# Altium schematic symbol library RDM_ALT_SCH.SchLib: 270 symbols (part 3 of 4)
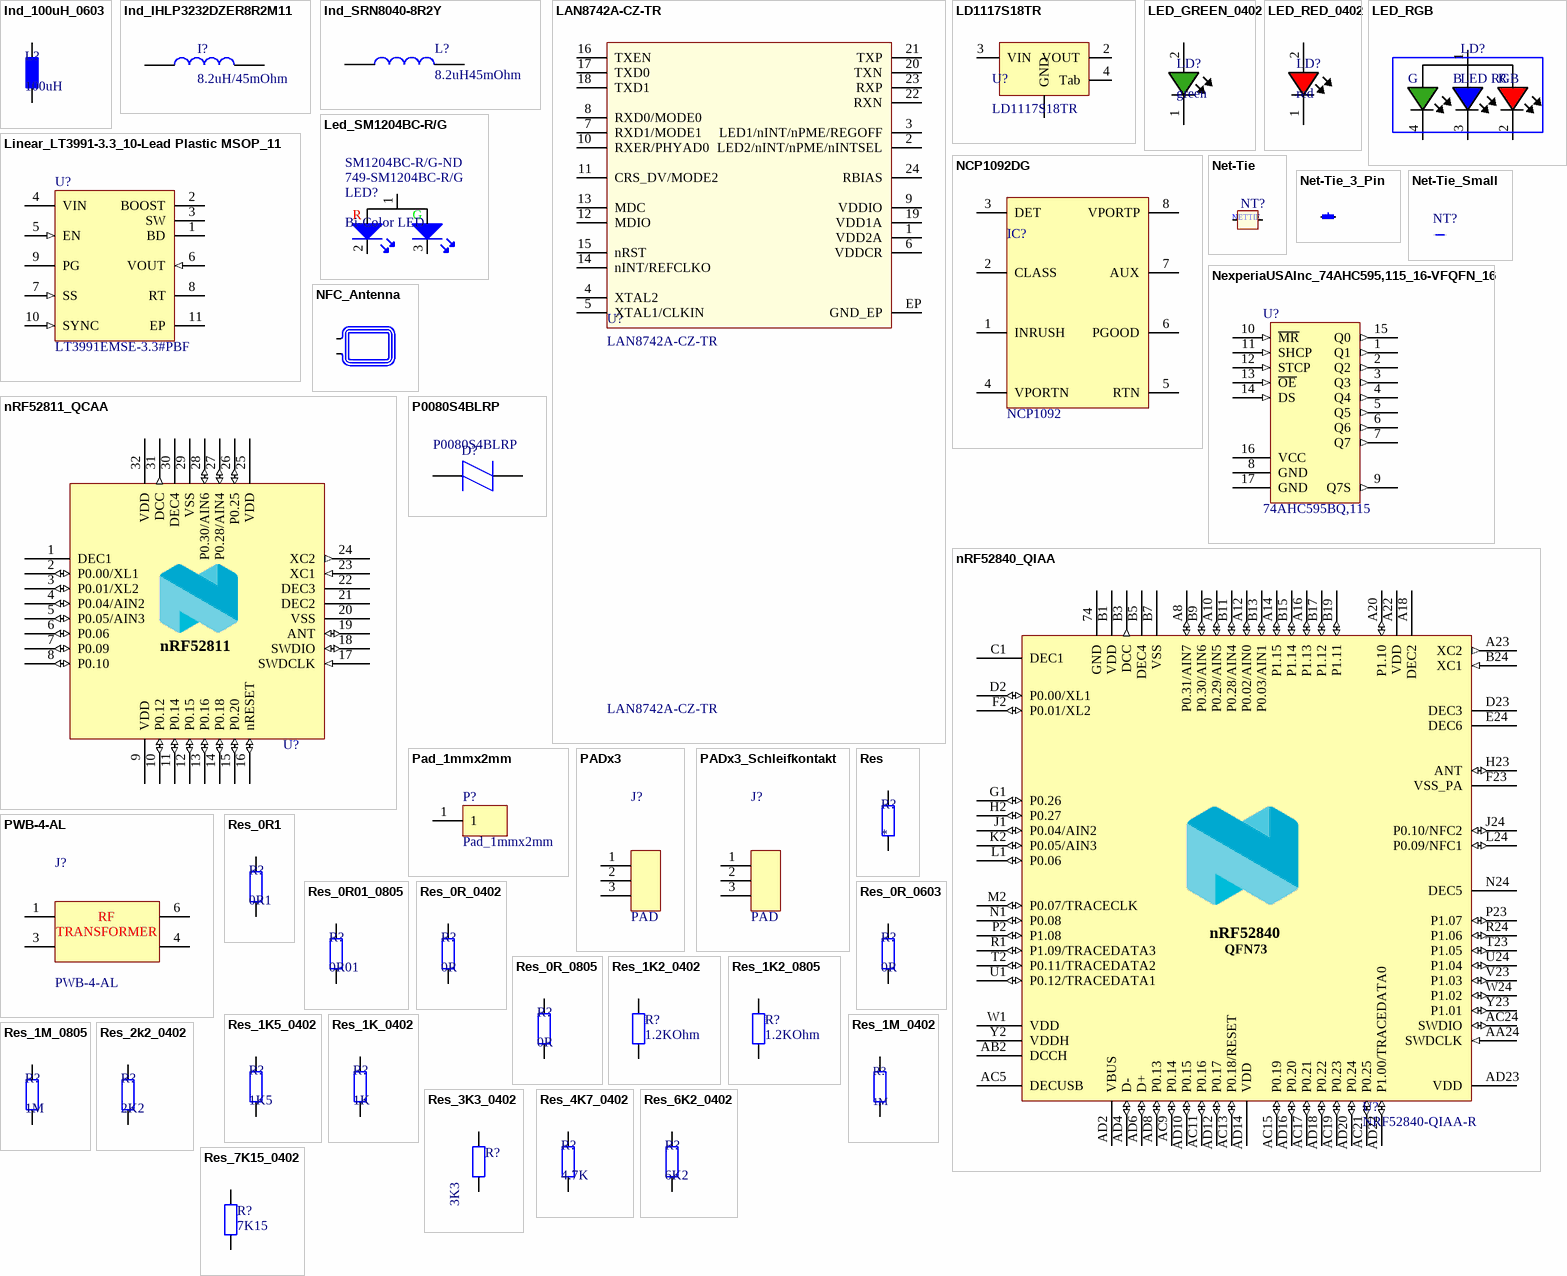
[diagram p11: symbols Ind_100uH_0603 to Res_7K15_0402]

## nRF52811_QCAA
designator U?  (value not drawn)
Multi-protocol Bluetooth Low Energy, IEEE 802.15.4, ANT and 2.4GHz proprietary system-on-chip; Manufacturer: Nordic Semiconductor; Manufacturer PartNr: nRF52811-QCAA-R; Value: nRF52811-QCAA; Replaceable: no; LatestRevisionDate: 2019-01-30; Pin Count: 32; Supplier 1: Mouser; Footprint/Package: QFN-32; Supplier Part Number 1: 949-NRF52811-QCAA-R
footprint nRF52811qcaa (Nordic QFN 32)
pins: 1 DEC1 (power), 2 P0.00/XL1 (io), 3 P0.01/XL2 (io), 4 P0.04/AIN2 (io), 5 P0.05/AIN3 (io), 6 P0.06 (io), 7 P0.09 (io), 8 P0.10 (io), 9 VDD (power), 10 P0.12 (io), 11 P0.14 (io), 12 P0.15 (io), 13 P0.16 (io), 14 P0.18 (io), 15 P0.20 (io), 16 nRESET (io), 17 SWDCLK (in), 18 SWDIO (io), 19 ANT (io), 20 VSS (power), 21 DEC2 (power), 22 DEC3 (power), 23 XC1 (in), 24 XC2 (out), 25 VDD (power), 26 P0.25 (io), 27 P0.28/AIN4 (io), 28 P0.30/AIN6 (io), 29 VSS (power), 30 DEC4 (power), 31 DCC (out), 32 VDD (power), 33 (power) hidden to GND
text: nRF52811

## nRF52840_QIAA
designator U?, comment NRF52840-QIAA-R
Multi-protocol Bluetooth Low Energy, IEEE 802.15.4, ANT and 2.4GHz proprietary system-on-chip; Manufacturer: Nordic Semiconductor; Replaceable: no; voltage: 1.7V ~ 5.5V; Manufacturer PartNr: NRF52840-QIAA-R; power: -; Dielectric Grade: -; value: NRF52840-QIAA-R; Supplier 1: Digi-Key; Footprint/Package: 73-AQFN (7x7mm); Supplier  Part Number 1: 1490-1071-1-ND; tolerance: -
footprint AQFN50P700X700X85_HS-74N
pins: 74 GND (power) hidden to GND, 74 GND, A8 P0.31/AIN7 (io), A10 P0.29/AIN5 (io), A12 P0.02/AIN0 (io), A14 P1.15 (io), A16 P1.13 (io), A18 DEC2 (power), A20 P1.10 (io), A22 VDD (power), A23 XC2 (out), AA24 SWDCLK (in), AB2 DCCH (power), AC5 DECUSB (power), AC9 P0.14 (io), AC11 P0.16 (io), AC13 P0.18/RESET (io), AC15 P0.19 (io), AC17 P0.21 (io), AC19 P0.23 (io), AC21 P0.25 (io), AC24 SWDIO (io), AD2 VBUS (power), AD4 D- (io), AD6 D+ (io), AD8 P0.13 (io), AD10 P0.15 (io), AD12 P0.17 (io), AD14 VDD (power), AD16 P0.20 (io), AD18 P0.22 (io), AD20 P0.24 (io), AD22 P1.00/TRACEDATA0 (io), AD23 VDD (power), B1 VDD (power), B3 DCC (out), B5 DEC4 (power), B7 VSS (power), B9 P0.30/AIN6 (io), B11 P0.28/AIN4 (io), B13 P0.03/AIN1 (io), B15 P1.14 (io), B17 P1.12 (io), B19 P1.11 (io), B24 XC1 (in), C1 DEC1 (power), D2 P0.00/XL1 (io), D23 DEC3 (power), E24 DEC6 (power), F2 P0.01/XL2 (io), F23 VSS_PA (power), G1 P0.26 (io), H2 P0.27 (io), H23 ANT (io), J1 P0.04/AIN2 (io), J24 P0.10/NFC2 (io), K2 P0.05/AIN3 (io), L1 P0.06 (io), L24 P0.09/NFC1 (io), M2 P0.07/TRACECLK (io), N1 P0.08 (io), N24 DEC5 (power), P2 P1.08 (io), P23 P1.07 (io), R1 P1.09/TRACEDATA3 (io), R24 P1.06 (io), T2 P0.11/TRACEDATA2 (io), T23 P1.05 (io), U1 P0.12/TRACEDATA1 (io), U24 P1.04 (io), V23 P1.03 (io), W1 VDD (power), W24 P1.02 (io), Y2 VDDH (power), Y23 P1.01 (io)
text: nRF52840; QFN73

## P0080S4BLRP
designator D?
Thyristor Surge Protection Devices (TSPD) PxxxxS4xLRP Series SIDACtor Protection Thyristor 100A 25V Bi SOD; Manufacturer: Littelfuse; Replaceable: no; ComponentLink1Description: mouser; ComponentLink1URL: https://www.mouser.ch/ProductDetail/Diodes-Incorporated/DESD3V3S1BL-7B?qs=%2fha2pyFaduhA707awRoRgtNXj1BWecNQPXz8CtVYm9O48rqwfwJI0g%3d%3d; Footprint/Package: SOD-123FL; Supplier 1: Mouser; Supplier Part Number 1: 576-P0080S4BLRP; Supplier 2: Digikey; Supplier Part Number 2: P0080S4BLRPCT-ND; Manufacturer PartNr: P0080S4BLRP
footprint P0080S4BLRP (SOD-123FL_Package)
pins: 1 A, 2 K

## Pad_1mmx2mm
designator P?
Manufacturer: Pad_1mmx2mm; Manufacturer PartNr: Pad_1mmx2mm
footprint Pad_1mmx2mm (Footprint not found)
pins: 1

## PADx3
designator J?, comment PAD  (net tie)
-; Replaceable: no; Footprint/Package: 2.54mm
footprint PADx3 (3 PADS)
pins: 1, 2, 3

## PADx3_Schleifkontakt
designator J?, comment PAD  (net tie)
-; Replaceable: no; Footprint/Package: 2.54mm
footprint PADx3_Schleifkontakt (3 PADS)
pins: 1, 2, 3

## PWB-4-AL
designator J?  (net tie)
Audio Transformers / Signal Transformers PWB Wideband RF 1:4 0.150-500 MHz; Manufacturer: Coilcraft; Manufacturer PartNr: PWB-4-ALB; Replaceable: no; Footprint/Package: according datasheet; Supplier 1: Farnell; Supplier 2: Mouser; Supplier Part Number 1: 2458061RL; Supplier Part Number 2: 994-PWB-4-ALB; ComponentLink1Description: mouser; ComponentLink1URL: https://www.mouser.ch/ProductDetail/Coilcraft/PWB-4-ALB?qs=sGAEpiMZZMv0IfuNuy2LUfGhYNbYTVsTGXcIGr0r728%3d
footprint PWB-4-AL (Surface Mount Wideband RF Transformer)
pins: 1, 3, 4, 6
text: RF; TRANSFORMER

## Res
designator R?
Resistor; value: *; tolerance: *; power: *; Replaceable: *; Manufacturer: *; Manufacturer PartNr: *; Footprint/Package: *
footprint Resistor 1206 EIA
footprint Resistor 0805 EIA
footprint Resistor 0603 EIA
footprint Resistor 0402 EIA
pins: 1, 2

## Res_0R1
designator R?, comment 0R1
100 mOhms ±1% 5W Chip Resistor 4527 J-Lead Anti-Sulfur, Automotive AEC-Q200, Current Sense, Moisture Resistant; Manufacturer: Vishay / Dale; Manufacturer PartNr: WSR5R1000FEA; Replaceable: no; value: 0R1; tolerance: ±1%; power: 5W; Footprint/Package: 4527 (11570 metric); Supplier 1: Digi-Key; Supplier Part Number 1: WSRC-.1CT-ND
footprint Resistor 4527 (Current Meas Shunt Resistor)
pins: 1, 2

## Res_0R01_0805
designator R?, comment 0R01
10 mOhms ±1% 0.5W, 1/2W Chip Resistor 0805 (2012 Metric) Current Sense, Moisture Resistant Metal Foil; Manufacturer: Bourns Inc.; Manufacturer PartNr: CFN0805-FX-R010ELF; Replaceable: no; value: 0R01; tolerance: ±1%; power: 0.5W, 1/2W; Footprint/Package: 0805 (2012 metric); Supplier 1: Digi-Key; Supplier Part Number 1: CFN0805-FX-R010ELFCT-ND
footprint Resistor 0805 EIA
pins: 1, 2

## Res_0R_0402
designator R?, comment 0R
0 Ohms Resistor 0402; Manufacturer: Panasonic Electronic Components; Manufacturer PartNr: ERJ-2GE0R00X; power: 100mW; Replaceable: yes; value: 0R; tolerance: -; Footprint/Package: 0402 (1005 metric); Supplier 1: Digi-Key; Supplier Part Number 1: P0.0JCT-ND
footprint Resistor 0402 EIA
pins: 1, 2

## Res_0R_0603
designator R?, comment 0R
0 Ohms Jumper 0.1W, 1/10W Chip Resistor 0603 (1608 Metric) Moisture Resistant Thick Film; Manufacturer: Yageo; Manufacturer PartNr: RC0603JR-070RL; Replaceable: yes; value: 0R; tolerance: -; power: 0.1W, 1/10W; Footprint/Package: 0603 (1608 metric); Supplier 1: Digi-Key; Supplier Part Number 1: 311-0.0GRCT-ND; voltage: -; Dielectric Grade: -
footprint Resistor 0603 EIA
pins: 1, 2

## Res_0R_0805
designator R?, comment 0R
0 Ohms Jumper 0.125W, 1/8W Chip Resistor 0805 (2012 Metric) Automotive AEC-Q200 Thick Film; Manufacturer: Panasonic Electronic Components; Manufacturer PartNr: ERJ-6GEY0R00V; Replaceable: yes; value: 0R; tolerance: -; power: 0.125W, 1/8W; Footprint/Package: 0805 (2012 metric); Supplier 1: Digi-Key; Supplier Part Number 1: P0.0ACT-ND
footprint Resistor 0805 EIA
pins: 1, 2

## Res_1K2_0402
designator R?, comment 1.2KOhm
1.2 kOhms ±0.5% 0.063W, 1/16W Chip Resistor 0402 (1005 Metric) Thin Film; Manufacturer: Panasonic; Manufacturer PartNr: ERA-2AED122X; value: 1.2K; voltage: 50V; Replaceable: yes; Supplier 1: Digi-Key; Supplier Part Number 1: P1.2KDECT-ND; Footprint/Package: 0402 (1005 metric); tolerance: ±0.5%; power: 0.063W, 1/16W; Dielectric Grade: -
footprint Resistor 0402 EIA
pins: 1, 2

## Res_1K2_0805
designator R?, comment 1.2KOhm
Res Thin Film 0805 1.2K Ohm 0.5% 1/8W 25ppm/C Molded SMD Punched Carrier T/R; Manufacturer: Panasonic; Manufacturer PartNr: ERA-6AED122V; voltage: 200V; Replaceable: yes; power: 0.125W, 1/8W; Supplier 1: Digi-Key; Supplier Part Number 1: P123801TR-ND; Footprint/Package: 0805 (2012 metric); value: 1.2K; tolerance: 0.5%; Dielectric Grade: -
footprint Resistor 0805 EIA
pins: 1, 2

## Res_1K5_0402
designator R?, comment 1K5
1.5 kOhms ±1% 0.063W, 1/16W Chip Resistor 0402 (1005 Metric); Manufacturer: TE Connectivity; Manufacturer PartNr: CRGCQ0402F1K5; Replaceable: yes; value: 1K5; tolerance: ±1%; power: 1/16W; Footprint/Package: 0402 (1005 metric); Supplier 1: Digi-Key; Supplier Part Number 1: A129629CT-ND
footprint Resistor 0402 EIA
pins: 1, 2

## Res_1K_0402
designator R?, comment 1K
1 kOhms ±0.5% 0.063W, 1/16W Chip Resistor 0402 (1005 Metric) Thin Film; Manufacturer: Susumu; Manufacturer PartNr: RR0510P-102-D; Replaceable: yes; value: 1K; tolerance: ±0.5%; power: 1/16W; Footprint/Package: 0402 (1005 metric); Supplier 1: Digi-Key; Supplier Part Number 1: RR05P1.0KDCT-ND
footprint Resistor 0402 EIA
pins: 1, 2

## Res_1M_0402
designator R?, comment 1M
1 MOhms ±1% 0.1W, 1/10W Chip Resistor 0402 (1005 Metric) Anti-Sulfur Thin Film; Manufacturer: Vishay Beyschlag; Manufacturer PartNr: MCS04020C1004FE000; Replaceable: yes; Supplier 1: Digi-Key; Supplier Part Number 1: MCS0402-1.00M-CFCT-ND; Footprint/Package: 0402 (1005 metric); value: 1M; power: 0.1W, 1/10W; tolerance: ±1%; Dielectric Grade: -
footprint Resistor 0402 EIA
pins: 1, 2

## Res_1M_0805
designator R?, comment 1M
PANASONIC ELECTRONIC COMPONENTS   ERA6AEB105V   Surface Mount Chip Resistor, Thin Film, AEC-Q200 ERA Series, 1 Mohm, 125 mW,  0.1%, 100 V; Manufacturer PartNr: ERA-6AEB105V; voltage: 100V; power: 125mW; Tolerance: 1%; Supplier 1: Digi-Key; Supplier Part Number 1: P1MDATR-ND; Manufacturer: Panasonic; Footprint/Package: 0805 (2012 metric); value: 1M; ComponentLink1URL: http://uk.rs-online.com/webdocs/0bee/0900766b80beefcc.pdf; ComponentLink1Description: http://uk.rs-online.com/webdocs/0bee/0900766b80beefcc.pdf; ComponentLink2URL: http://www.farnell.com/datasheets/485442.pdf; ComponentLink2Description: http://www.farnell.com/datasheets/485442.pdf; ComponentLink3URL: https://industrial.panasonic.com/cdbs/www-data/pdf/RDM0000/AOA0000C307.pdf; ComponentLink3Description: https://industrial.panasonic.com/cdbs/www-data/pdf/RDM0000/AOA0000C307.pdf; ComponentLink4URL: http://www.farnell.com/datasheets/2052875.pdf; ComponentLink4Description: http://www.farnell.com/datasheets/2052875.pdf; ComponentLink5URL: http://industrial.panasonic.com/www-data/pdf/AOA0000/AOA0000CE26.pdf; ComponentLink5Description: http://industrial.panasonic.com/www-data/pdf/AOA0000/AOA0000CE26.pdf; ComponentLink6URL: http://www.alliedelec.com/m/d/b6b0537e86f421aa7f5975bb1d8f429a.pdf; ComponentLink6Description: http://www.alliedelec.com/m/d/b6b0537e86f421aa7f5975bb1d8f429a.pdf; ComponentLink7URL: http://www.produktinfo.conrad.com/datenblaetter/450000-474999/458432-da-01-en-WIDERSTAND_0805_ERA.pdf; ComponentLink7Description: http://www.produktinfo.conrad.com/datenblaetter/450000-474999/458432-da-01-en-WIDERSTAND_0805_ERA.pdf
footprint Resistor 0805 EIA
pins: 1, 2

## Res_2k2_0402
designator R?, comment 2K2
2.2K OHM 5% 1/16W 0402 (1005 metric) Thik Film; Manufacturer: Yageo; Manufacturer PartNr: ERA-2AEB222X; tolerance: ±0.1%; Replaceable: yes; value: 2K2; power: 1/16W; Footprint/Package: 0402 (1005 metric); Supplier 1: Digi-Key; Supplier Part Number 1: P2.2KDCCT-ND
footprint Resistor 0402 EIA
pins: 1, 2

## Res_3K3_0402
designator R?, comment 3K3
3.3 kOhms ±0.1% 0.063W, 1/16W Chip Resistor 0402 (1005 Metric) Automotive AEC-Q200 Thin Film; Manufacturer: Panasonic Electronic Components; Manufacturer PartNr: ERA-2AEB332X; Replaceable: yes; Dielectric Grade: -; Footprint/Package: 0402 (1005metric); power: 0.063W, 1/16W; Supplier 1: Digi-Key; Supplier Part Number 1: P3.3KDCCT-ND; tolerance: ±0.1%; value: 3K3
footprint Resistor 0402 EIA
pins: 1, 2

## Res_4K7_0402
designator R?, comment 4.7K
4.7 kOhms ±5% 0.063W, 1/16W Chip Resistor 0402 (1005 Metric) Moisture Resistant Thick Film; Manufacturer: Yageo; Manufacturer PartNr: RC0402JR-074K7L; Replaceable: yes; Suipplier 1: Digi-Key; value: 4.7K; tolerance: ±5%; power: 0.063W, 1/16W; Footprint/Package: 0402 (1005); ComponentLink1Description: mouser; ComponentLink1URL: https://www.mouser.ch/ProductDetail/Yageo/RC0402FR-07412KL?qs=sGAEpiMZZMu61qfTUdNhG6gKAQVNBKOozNOFQJr2tME%3d; Supplier Part Number 1: 311-4.7KJRCT-ND
footprint Resistor 0402 EIA
pins: 1, 2

## Res_6K2_0402
designator R?, comment 6K2
SMD 6.2K OHM 5% 1/32W 01005 (0402 metrisch); Manufacturer: Yageo; Manufacturer PartNr: RC0100JR-076K2L; power: 30mW; Replaceable: yes; value: 6K2; tolerance: 5%; ComponentLink1Description: mouser; ComponentLink1URL: https://www.mouser.ch/ProductDetail/Panasonic/ERJ-U02F1272X?qs=%2fha2pyFaduhgKgPBJ740pAaHj6cp9pylmg%252bQEADUfgyeSrh3sAf%2fUfkIS9lAH%252bGtn6lc%2fnTP02L%252baHn1ibPfBw%3d%3d; Footprint/Package: 0805 ( metric); Supplier Part Number 1: YAG6498CT-ND; Supplier 1: Digi-Key
footprint Resistor 0402 EIA
pins: 1, 2

## Res_7K15_0402
designator R?, comment 7K15
7.15 kOhms ±0.1% 0.063W, 1/16W Chip Resistor 0402 (1005 Metric) Anti-Sulfur, Automotive AEC-Q200 Thin Film; Manufacturer: TE Connectivity; Manufacturer PartNr: RQ73C1E7K15BTD; Replaceable: yes; Supplier 1: Digi-Key; Supplier Part Number 1: A139461CT-ND; Case/Package: 0402 (1005 metric); Tolerance: ±0.1%; value: 7K15; power: 0.063W, 1/16W; ComponentLink1URL: http://documents.rs-components.com/techlib://itc_doclist_GB.htm?stockno=7016664; ComponentLink1Description: http://documents.rs-components.com/techlib://itc_doclist_GB.htm?stockno=7016664
footprint Resistor 0402 EIA
pins: 1, 2

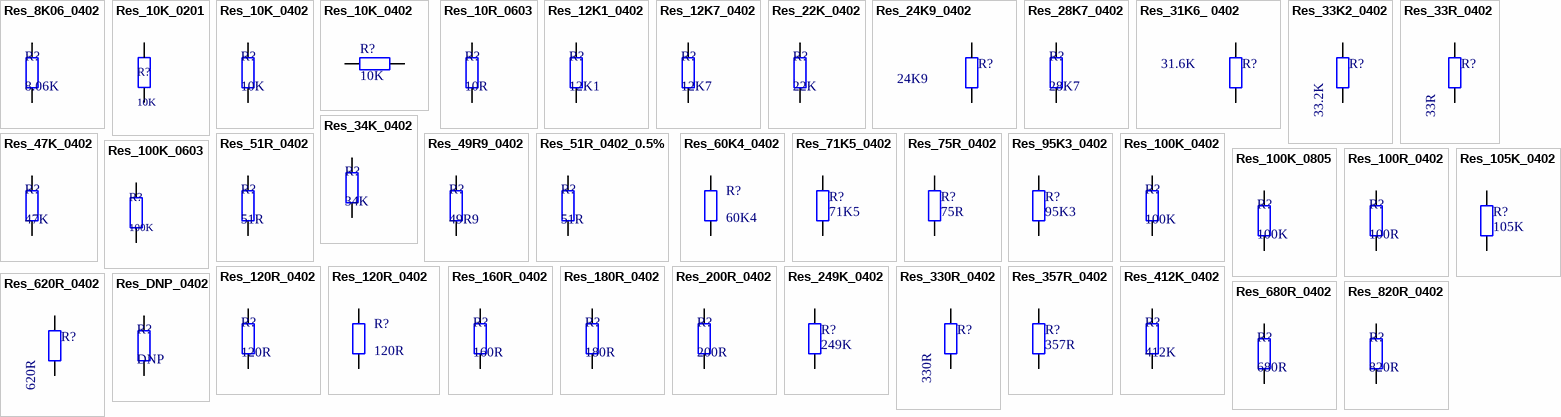
[diagram p5: symbols Res_8K06_0402 to Res_DNP_0402]

## Res_8K06_0402
designator R?, comment 8.06K
8.06 kOhms ±1% 0.063W, 1/16W Chip Resistor 0402 (1005 Metric) Moisture Resistant Thick Film; Manufacturer: Yageo; Manufacturer PartNr: 311-8.06KLRCT-ND; Replaceable: yes; Suipplier 1: Digi-Key; value: 8.06K; tolerance: ±1%; power: 0.063W, 1/16W; Footprint/Package: 0402 (1005); ComponentLink1Description: mouser; ComponentLink1URL: https://www.mouser.ch/ProductDetail/Yageo/RC0402FR-07412KL?qs=sGAEpiMZZMu61qfTUdNhG6gKAQVNBKOozNOFQJr2tME%3d; Supplier Part Number 1: RC0402FR-078K06L
footprint Resistor 0402 EIA
pins: 1, 2

## Res_10K_0201
designator R?, comment 10K
10 kOhms ±1% 0.05W, 1/20W Chip Resistor 0201 (0603 Metric) Thick Film; Manufacturer: Stackpole Electronics; Manufacturer PartNr: RMCF0201FT10K0; power: 50mW; Supplier 1: Digi-Key; Footprint/Packaging: 0201 (0603 metric); value: 10K; Tolerance: 1%; Supplier Part Number 1: RMCF0201FT10K0-ND
footprint RES-0201[0603] - RFL
pins: 1, 2

## Res_10K_0402
designator R?, comment 10K
SMD 10K ohm 1% 50V General Purpose; Manufacturer: Yageo; Manufacturer PartNr: RC0402FR-1010KL; power: 63mW; Replaceable: yes; value: 10K; tolerance: 1%; ComponentLink1Description: mouser; ComponentLink1URL: https://www.mouser.ch/ProductDetail/Yageo/RC0402FR-1010KL?qs=sGAEpiMZZMtlubZbdhIBIEgN9MQql2m6Sb2LnYlCICU%3d; Footprint/Package: 0402; Supplier 1: Mouser; Supplier Part Number 1: 603-RC0402FR-1010KL; Supplier 2: Digi-Key; Supplier Part Number 2: *
footprint Resistor 0402 EIA
pins: 1, 2

## Res_10K_0402 
designator R?, comment 10K
10 kOhms ±1% 0.063W, 1/16W Chip Resistor 0402 (1005 Metric) Moisture Resistant Thick Film; Manufacturer: Yageo; Manufacturer PartNr: RC0402FR-0710KL; Replaceable: yes; value: 10K; tolerance: ±1%; Footprint/Package: 0402 (1005 metric); Supplier 1: Digi-Key; Supplier Part Number 1: 311-10.0KLRCT-ND; Power: 0.063W
footprint RES-0402[1005] - RFL (SMD Chip 0402 - RES - RFL)
footprint RES-0402[1005] (SMD Chip 0402 - RES)
pins: 1, 2

## Res_10R_0603
designator R?, comment 10R
SMD 1/4watt 10ohms 1%; Manufacturer: Vishay; Manufacturer PartNr: CRCW060310R0FKEAHP; power: 250mW; Replaceable: yes; value: 10R; tolerance: 1%; Footprint/Package: 0603 (1608 metric); Supplier 1: Digi-Key; Supplier 2: Mouser; Supplier Part Number 2: CRCW060310R0FKEAHP; Supplier Part Number 1: 541-10.0SCT-ND
footprint Resistor 0603 EIA
pins: 1, 2

## Res_12K1_0402
designator R?, comment 12K1
12.1 kOhms ±1% 0.063W, 1/16W Chip Resistor 0402 (1005 Metric) Moisture Resistant Thick Film; Manufacturer: Yageo; Manufacturer PartNr: RC0402FR-0712K1L; Replaceable: yes; value: 12K1; tolerance: ±1%; power: 1/16W; Footprint/Package: 0402 (1005 metric); Supplier 1: Digi-Key; Supplier Part Number 1: 311-12.1KLRCT-ND
footprint Resistor 0402 EIA
pins: 1, 2

## Res_12K7_0402
designator R?, comment 12K7
12.7Kohm, 1%, SMD 0402 (metric 1005); Manufacturer: Panasonic; Manufacturer PartNr: ERJ-U02F1272X; power: 100mW; Replaceable: yes; value: 12K7; tolerance: 1%; ComponentLink1Description: mouser; ComponentLink1URL: https://www.mouser.ch/ProductDetail/Panasonic/ERJ-U02F1272X?qs=%2fha2pyFaduhgKgPBJ740pAaHj6cp9pylmg%252bQEADUfgyeSrh3sAf%2fUfkIS9lAH%252bGtn6lc%2fnTP02L%252baHn1ibPfBw%3d%3d; Footprint/Package: 0402 (1005); Supplier 1: Mouser; Supplier Part Number 1: 667-ERJ-U02F1272X
footprint Resistor 0402 EIA
pins: 1, 2

## Res_22K_0402
designator R?, comment 22K
22 kOhms ±5%  0402 (1005 metrisch) Thick Film; Manufacturer: Yageo; Manufacturer PartNr: RC0402JR-0722KL; power: 0.063W, 1/16W; Replaceable: yes; value: 22K; tolerance: 5%; Footprint/Package: 0402 (1005 metric); Supplier 1: Digi-Key; Supplier Part Number 1: 311-22KJRCT-ND
footprint Resistor 0402 EIA
pins: 1, 2

## Res_24K9_0402
designator R?, comment 24K9
24.9 kOhms ±1% 0.1W, 1/10W Chip Resistor 0402 (1005 Metric) Thick Film; Manufacturer: Panasonic; Manufacturer PartNr: ERJ-2RKF2492X; Replaceable: yes; Supplier 2: Mouser; Supplier Part Number 2: 667-ERJ-2RKF2492X; Supplier 1: Digi-Key; Footprint/Package: 0402 (1005 metric); tolerance: ±1%; ComponentLink1URL: https://industrial.panasonic.com/cdbs/www-data/pdf/RDA0000/DMA0000COL11.pdf; ComponentLink1Description: https://industrial.panasonic.com/cdbs/www-data/pdf/RDA0000/DMA0000COL11.pdf; ComponentLink2URL: http://www.farnell.com/datasheets/426256.pdf; ComponentLink2Description: http://www.farnell.com/datasheets/426256.pdf; value: 24K9; Supplier Part Number 1: P24.9KLCT-ND; power: 0.1W
footprint Resistor 0402 EIA
pins: 1, 2

## Res_28K7_0402
designator R?, comment 28K7
Res Thick Film 0402 28.7K Ohm 1% 0.1W(1/10W) ±100ppm/C Molded SMD Automotive Punched T/R; Manufacturer: Panasonic; Manufacturer PartNr: ERJ-2RKF2872X; power: 100mW; Replaceable: yes; Supplier 1: Digi-Key; Footprint/Package: 0402 (1005 metric); tolerance: 1%; value: 28K7; ComponentLink1URL: http://www.alliedelec.com/m/d/623f45ff1957d936ff56d46fd1c28cac.pdf; ComponentLink1Description: http://www.alliedelec.com/m/d/623f45ff1957d936ff56d46fd1c28cac.pdf; ComponentLink2URL: http://www.farnell.com/datasheets/1694929.pdf; ComponentLink2Description: http://www.farnell.com/datasheets/1694929.pdf; ComponentLink3URL: http://www.mouser.com/ds/2/315/AOA0000CE2-37512.pdf; ComponentLink3Description: http://www.mouser.com/ds/2/315/AOA0000CE2-37512.pdf; ComponentLink4URL: http://www.farnell.com/datasheets/1678782.pdf; ComponentLink4Description: http://www.farnell.com/datasheets/1678782.pdf; ComponentLink5URL: http://industrial.panasonic.com/www-data/pdf/AOA0000/AOA0000CE2.pdf; ComponentLink5Description: http://industrial.panasonic.com/www-data/pdf/AOA0000/AOA0000CE2.pdf; Supplier Part Number 1: P28.7KLDKR-ND
pins: 1, 2

## Res_31K6_ 0402
designator R?, comment 31.6K
31.6 kOhms ±0.1% 0.063W, 1/16W Chip Resistor 0402 (1005 Metric) Automotive AEC-Q200 Thin Film; Manufacturer: Panasonic; Manufacturer PartNr: ERA-2AEB3162X; voltage: NA; Replaceable: yes; Supplier 1: Digi-Key; Supplier Part Number 1: P31.6KDCCT-ND; Footprint/Package: 0402 (1005 metric); value: 31.6K; Tolerance: 0.1%; power: 0.063W, 1/16W; Dielectric grade: NA
footprint Resistor 0402 EIA
pins: 1, 2

## Res_33K2_0402
designator R?, comment 33.2K
33.2 kOhms ±0.1% 0.063W, 1/16W Chip Resistor 0402 (1005 Metric) Thin Film; Manufacturer: TE Connectivity; Manufacturer PartNr: CPF0402B33K2E1; Dielectric Grade: NA; Replaceable: yes; ComponentLink1URL: http://www.mouser.com/ds/2/418/NG_CD_1879215_BA-661209.pdf; ComponentLink1Description: http://www.mouser.com/ds/2/418/NG_CD_1879215_BA-661209.pdf; ComponentLink2URL: http://www.farnell.com/datasheets/1786775.pdf; ComponentLink2Description: http://www.farnell.com/datasheets/1786775.pdf; ComponentLink3URL: http://uk.rs-online.com/webdocs/0de4/0900766b80de4f6c.pdf; ComponentLink3Description: http://uk.rs-online.com/webdocs/0de4/0900766b80de4f6c.pdf; Footprint/Package: 0402 (1005metric); power: 0.063W, 1/16W; Supplier 1: Digi-Key; Supplier Part Number 1: A102800CT-ND; tolerance: 0.1%; value: 33.2K
footprint Resistor 0402 EIA
pins: 1, 2

## Res_33R_0402
designator R?, comment 33R
33 Ohms ±0.1% 0.063W, 1/16W Chip Resistor 0402 (1005 Metric) Thin Film; Manufacturer: TE Connectivity; Manufacturer PartNr: CPF0402B33RE1; Replaceable: yes; Dielectric Grade: -; Footprint/Package: 0402 (1005metric); power: 0.063W, 1/16W; Supplier 1: Digi-Key; Supplier Part Number 1: A102801CT-ND; tolerance: ±0.1%; value: 33R
footprint Resistor 0402 EIA
pins: 1, 2

## Res_34K_0402
designator R?, comment 34K
34Kohms, SMD 0402  1%; Manufacturer: Panasonic; Manufacturer PartNr: ERJ-S02F3402X; power: 100mW; Replaceable: yes; value: 34K; tolerance: 1%; ComponentLink1Description: mouser; ComponentLink1URL: https://www.mouser.ch/ProductDetail/Panasonic/ERJ-S02F3402X?qs=sGAEpiMZZMtlubZbdhIBINuoixIUl6fxKD%252btaKOXBLI%3d; Footprint/Package: 0402; Supplier 1: Digi-Key; Supplier 2: Mouser; Supplier Part Number 2: 667-ERJ-S02F3402X; Supplier Part Number 1: ERJ-S02F3402X-ND
footprint Resistor 0402 EIA
pins: 1, 2

## Res_47K_0402
designator R?, comment 47K
47 kOhms ±5% 0.063W, 1/16W Chip Resistor 0402 (1005 Metric) Automotive AEC-Q200, Moisture Resistant Thick Film; Manufacturer: TE Connectivity; Manufacturer PartNr: CRGCQ0402J47K; power: 62.5mW; Replaceable: yes; Suipplier 1: Digi-Key; value: 47K; tolerance: 5%; Footprint/Package: 0402 (1005); ComponentLink1Description: mouser; ComponentLink1URL: https://www.mouser.ch/ProductDetail/Yageo/RC0402FR-07412KL?qs=sGAEpiMZZMu61qfTUdNhG6gKAQVNBKOozNOFQJr2tME%3d; Supplier Part Number 1: A130058CT-ND
footprint Resistor 0402 EIA
pins: 1, 2

## Res_49R9_0402
designator R?, comment 49R9
49.9 Ohms ±0.1% 0.063W, 1/16W Chip Resistor 0402 (1005 Metric) Automotive AEC-Q200 Thin Film; Manufacturer: Panasonic Electronic Components; Manufacturer PartNr: ERA-2AEB49R9X; Replaceable: yes; voltage: NA; value: 49R9; tolerance: ±0.1%; power: 0.063W, 1/16W; Footprint/Package: 0402 (1005 metric); Supplier 1: Digi-Key; Supplier Part Number 1: P49.9DCCT-ND; DIelectric Grade: NA
footprint Resistor 0402 EIA
pins: 1, 2

## Res_51R_0402
designator R?, comment 51R
51 Ohms ±5% 0.063W, 1/16W Chip Resistor 0402 (1005 Metric) , Thick Film; Manufacturer: Yageo; Manufacturer PartNr: RC0402JR-0751RL; power: 62.5mW; Replaceable: yes; value: 51R; tolerance: 5%; Footprint/Package: 0402 (1005  metric); ComponentLink1Description: mouser; ComponentLink1URL: https://www.mouser.ch/ProductDetail/Yageo/RC0402JR-0751RL?qs=sGAEpiMZZMtG0KNrPCHnjTtiZEI2zSDg2UFCMmEjZXQ%3d; Supplier 1: Farnell; Supplier 2: Mouser; Supplier 3: Digi-Key; Supplier Part Number 1: 1799298; Supplier Part Number 2: 603-RC0402JR-0751RL; Supplier Part Number 3: 311-51JRDKR-ND
footprint Resistor 0402 EIA
pins: 1, 2

## Res_51R_0402_0.5%
designator R?, comment 51R
51 Ohms ±0.5% 0.063W, 1/16W Chip Resistor 0402 (1005 Metric) Thin Film; Manufacturer: Susumu; Manufacturer PartNr: RR0510R-510-D; power: 62.5mW; Replaceable: yes; value: 51R; tolerance: ±0.5%; Footprint/Package: 0402 (1005  metric); ComponentLink1Description: mouser; ComponentLink1URL: https://www.mouser.ch/ProductDetail/Yageo/RC0402JR-0751RL?qs=sGAEpiMZZMtG0KNrPCHnjTtiZEI2zSDg2UFCMmEjZXQ%3d; Supplier 1: Digi-Key; Supplier Part Number 1: RR05R51DCT-ND
footprint Resistor 0402 EIA
pins: 1, 2

## Res_60K4_0402
designator R?, comment 60K4
60.4 kOhms ±1% 0.063W, 1/16W Chip Resistor 0402 (1005 Metric) Moisture Resistant Thick Film; Manufacturer: Yageo; Manufacturer PartNr: RC0402FR-0760K4L; Replaceable: yes; value: 60K4; tolerance: 1%; Supplier 1: Digi-Key; power: 0.063W; Supplier Part Nummber 1: RC0402FR-0760K4L
footprint RES-0402[1005] - RFL (SMD Chip 0402 - RES - RFL)
footprint RES-0402[1005] (SMD Chip 0402 - RES)
pins: 1, 2

## Res_71K5_0402
designator R?, comment 71K5
71.5 kOhms ±1% 0.1W, 1/10W Chip Resistor 0402 (1005 Metric) Automotive AEC-Q200, Moisture Resistant Thick Film; Manufacturer: KOA Speer Elec.; Manufacturer PartNr: RK73H1ETTP7152F; power: 0.01W,  1/10W; Replaceable: yes; Supplier 1: Digi-Key; Supplier Part Number 1: 2019-RK73H1ETTP7152FCT-ND; Case/Package: 0402 (1005 metric); Tolerance: ±1%; value: 71K5; ComponentLink1URL: http://documents.rs-components.com/techlib://itc_doclist_GB.htm?stockno=7016664; ComponentLink1Description: http://documents.rs-components.com/techlib://itc_doclist_GB.htm?stockno=7016664
footprint Resistor 0402 EIA
pins: 1, 2

## Res_75R_0402
designator R?, comment 75R
75 Ohms ±1% 0.1W, 1/10W Chip Resistor 0402 (1005 Metric) Automotive AEC-Q200 Thick Film; Manufacturer: Panasonic; Manufacturer PartNr: ERJ-2RKF75R0X; Replaceable: yes; Supplier 1: Digi-Key; Supplier Part Number 1: P75.0LCT-ND; Case/Package: 0402 (1005 metric); Tolerance: ±1%; value: 75R; power: 0.1W,1/10W; ComponentLink1URL: http://documents.rs-components.com/techlib://itc_doclist_GB.htm?stockno=7016664; ComponentLink1Description: http://documents.rs-components.com/techlib://itc_doclist_GB.htm?stockno=7016664
footprint Resistor 0402 EIA
pins: 1, 2

## Res_95K3_0402
designator R?, comment 95K3
95.3 kOhms ±0.1% 0.063W, 1/16W Chip Resistor 0402 (1005 Metric) Automotive AEC-Q200 Thin Film; Manufacturer: Panasonic; Manufacturer PartNr: ERA-2AEB9532X; power: 63mW; Replaceable: no; Supplier 2: Mouser; Footprint/Package: 0402 (1005 metric); value: 95K3; tolerance: 0.1%; Supplier Part Number 2: 667-ERA-2AEB9532X; Supplier Part Number 1: P95.3KDCCT-ND; Supplier 1: Digi-Key
footprint Resistor 0402 EIA
pins: 1, 2

## Res_100K_0402
designator R?, comment 100K
100 kOhms ±0,1% 0,063W, 1/16W Chip-Widerstand 0402 (1005 metrisch) Dünnschicht; Manufacturer: Yageo; Manufacturer PartNr: RT0402BRD07100KL; tolerance: ±0.1%; Replaceable: yes; value: 100K; power: 0,063W, 1/16W; Footprint/Package: 0402 (1005 metrisch); Supplier 1: Digi-Key; Supplier Part Number 1: YAG1343CT-ND
footprint Resistor 0402 EIA
pins: 1, 2

## Res_100K_0603
designator R?, comment 100K
100 kOhms ±1% 0.05W, 1/20W Chip Resistor 0201 (0603 Metric) Moisture Resistant Thick Film; Manufacturer: Yageo; Manufacturer PartNr: RC0201FR-07100KL; Replaceable: yes; Supplier 1: Digi-Key; Supplier Part Number 1: 311-100KMCT-ND; Footprint/Package: 0201 (0603 metric); value: 100K; power: 0.05W, 1/20W; tolerance: ±1%
footprint RES-0201[0603] - RFL
pins: 1, 2

## Res_100K_0805
designator R?, comment 100K
100 kOhms ±0.1% 0.125W, 1/8W Chip Resistor 0805 (2012 Metric) Automotive AEC-Q200 Thin Film; Manufacturer: Panasonic Electronic Components; Manufacturer PartNr: ERA-6AEB104V; Replaceable: yes; value: 100K; tolerance: ±0.1%; power: 0.125W, 1/8W; Footprint/Package: 0805 (2012 metric); Supplier 1: Digi-Key; Supplier Part Number 1: P100KDACT-ND
footprint Resistor 0805 EIA
pins: 1, 2

## Res_100R_0402
designator R?, comment 100R
100 Ohms ±0.1% 0.063W, 1/16W Chip Resistor 0402 (1005 Metric) Thin Film; Manufacturer: Yageo; Manufacturer PartNr: RT0402BRD07100RL; power: 0,063W, 1/16W; Replaceable: yes; value: 100R; tolerance: ±0.1%; Footprint/Package: 0402 (1005 metrisch); Supplier 1: Digi-Key; Supplier Part Number 1: YAG2301CT-ND
footprint Resistor 0402 EIA
pins: 1, 2

## Res_105K_0402
designator R?, comment 105K
105 kOhms ±1% 0.1W, 1/10W Chip Resistor 0402 (1005 Metric) Automotive AEC-Q200 Thick Film; Manufacturer: Panasonic; Manufacturer PartNr: ERJ-2RKF1053X; Replaceable: yes; Supplier 1: Digi-Key; Supplier Part Number 1: P105KLCT-ND; Footprint/Package: 0402 (1005 metric); tolerance: ±1%; power: 0.1W, 1/10W; value: 105K; ComponentLink1URL: http://www.alliedelec.com/m/d/623f45ff1957d936ff56d46fd1c28cac.pdf; ComponentLink1Description: http://www.alliedelec.com/m/d/623f45ff1957d936ff56d46fd1c28cac.pdf; ComponentLink2URL: http://industrial.panasonic.com/www-data/pdf/AOA0000/AOA0000CE2.pdf; ComponentLink2Description: http://industrial.panasonic.com/www-data/pdf/AOA0000/AOA0000CE2.pdf; ComponentLink3URL: http://www.farnell.com/datasheets/1694929.pdf; ComponentLink3Description: http://www.farnell.com/datasheets/1694929.pdf; ComponentLink4URL: http://www.farnell.com/datasheets/1911175.pdf; ComponentLink4Description: http://www.farnell.com/datasheets/1911175.pdf; ComponentLink5URL: http://www.farnell.com/datasheets/1678782.pdf; ComponentLink5Description: http://www.farnell.com/datasheets/1678782.pdf
footprint Resistor 0402 EIA
pins: 1, 2

## Res_120R_0402
designator R?, comment 120R
120R, SMD 0402, 1%; Manufacturer: Yageo; Manufacturer PartNr: RC0402FR-07120RL; power: 62.5mW; Replaceable: yes; value: 120R; tolerance: 1%; Footprint/Package: 0402 (1005 metric); ComponentLink1Description: mouser; ComponentLink1URL: https://www.mouser.ch/ProductDetail/Yageo/RC0402FR-07120RL?qs=sGAEpiMZZMtG0KNrPCHnjZp3fE5AS1HJJJHwzxSjurg%3d; Supplier 1: Digi-Key; Supplier 2: Mouser; Supplier 3: Farnell; Supplier Part Number 3: 9239120; Supplier Part Number 2: 603-RC0402FR-07120RL; Supplier Part Number 1: 311-120LRDKR-ND
footprint Resistor 0402 EIA
pins: 1, 2

## Res_120R_0402 
designator R?, comment 120R
120 Ohms ±1% 0.063W, 1/16W Chip Resistor 0402 (1005 Metric) Automotive AEC-Q200, Moisture Resistant Thick Film; Manufacturer PartNr: CRGCQ0402F120R; Manufacturer: TE Connectivity; Replaceable: yes; value: 120R; tolerance: 1%; Supplier 1: Digi-Key; Supplier Part Number 1: A129616CT-ND; power: 0.063W
footprint RES-0402[1005] - RFL (SMD Chip 0402 - RES - RFL)
footprint RES-0402[1005] (SMD Chip 0402 - RES)
pins: 1, 2

## Res_160R_0402
designator R?, comment 160R
SMD 0402 160 OHM 1%; Manufacturer: Yageo; Manufacturer PartNr: RC0402FR-07160RL; power: 62.5mW; Replaceable: yes; value: 160R; tolerance: 1%; Footprint/Package: 0402 (1005 metric); ComponentLink1Description: digikey; ComponentLink1URL: https://www.digikey.com/product-detail/en/yageo/RC0402FR-07160RL/311-160LRDKR-ND/732440; Supplier 2: Mouser; Supplier Part Number 2: 603-RC0402FR-07160RL; Supplier 1: Digi-Key; Supplier Part Number 1: 311-160LRCT-ND
footprint Resistor 0402 EIA
pins: 1, 2

## Res_180R_0402
designator R?, comment 180R
180Ohm, 0402, 0.1%, 63mW, 50V; Manufacturer: KOA Speer Electronics,; Manufacturer PartNr: RN73H1ETTP1800B50; power: 62.5mW; Replaceable: yes; value: 180R; tolerance: 0.1%; Footprint/Package: 0402 (1005 metric); ComponentLink1Description: mouser; ComponentLink1URL: https://www.mouser.ch/ProductDetail/Yageo/RC0402FR-07120RL?qs=sGAEpiMZZMtG0KNrPCHnjZp3fE5AS1HJJJHwzxSjurg%3d; Supplier 1: Digi-Key; Supplier 2: Mouser; Supplier Part Number 2: 660-RN73H1ETP1800B50; Supplier Part Number 1: 2019-RN73H1ETTP1800B50TR-ND
footprint Resistor 0402 EIA
pins: 1, 2

## Res_200R_0402
designator R?, comment 200R
200 Ohms ±0.1% 0.063W, 1/16W Chip Resistor 0402 (1005 Metric) Automotive AEC-Q200 Thin Film; Manufacturer: Panasonic Electronic Components; Manufacturer PartNr: ERA-2AEB201X; Replaceable: yes; voltage: NA; value: 200R; tolerance: ±0.1%; power: 0.063W, 1/16W; Footprint/Package: 0402 (1005 metric); Supplier 1: Digi-Key; Supplier Part Number 1: P200DCCT-ND; Dielectric Grade: NA
footprint Resistor 0402 EIA
pins: 1, 2

## Res_249K_0402
designator R?, comment 249K
249 kOhms ±1% 0.063W, 1/16W Chip Resistor 0402 (1005 Metric) Automotive AEC-Q200 Thick Film; Manufacturer: Vishay Dale; Manufacturer PartNr: CRCW0402249KFKED; voltage: 50V; Replaceable: yes; Supplier 1: Digi-Key; Supplier Part Number 1: 541-249KLCT-ND; Case/Package: 0402 (1005 metric); value: 249K; tolerance: ±1%; power: 0.063W, 1/16W; ComponentLink1URL: http://www.vishay.com/docs/20008/dcrcw.pdf; ComponentLink1Description: http://www.vishay.com/docs/20008/dcrcw.pdf
footprint Resistor 0402 EIA
pins: 1, 2

## Res_330R_0402
designator R?, comment 330R
330 Ohms ±0.1% 0.063W, 1/16W Chip Resistor 0402 (1005 Metric) Automotive AEC-Q200 Thin Film; Manufacturer: Panasonic Electronic Components; Manufacturer PartNr: ERA-2AEB331X; Replaceable: yes; Dielectric Grade: -; Footprint/Package: 0402 (1005metric); power: 0.063W, 1/16W; Supplier 1: Digi-Key; Supplier Part Number 1: P330DCCT-ND; tolerance: ±0.1%; value: 330R
footprint Resistor 0402 EIA
pins: 1, 2

## Res_357R_0402
designator R?, comment 357R
357 Ohms ±1% 0.063W, 1/16W Chip Resistor 0402 (1005 Metric) Thick Film; Manufacturer: Bourns; Manufacturer PartNr: CR0402-FX-3570GLF; Replaceable: yes; Supplier 2: Mouser; Footprint/Package: 0402 (1005 metric); value: 357R; tolerance: ±1%; power: 0.063W; ComponentLink1URL: http://www.bourns.com/docs/Product-Datasheets/CR0402.pdf; ComponentLink1Description: http://www.bourns.com/docs/Product-Datasheets/CR0402.pdf; ComponentLink2URL: http://www.bourns.com/pdfs/CR0402.pdf; ComponentLink2Description: http://www.bourns.com/pdfs/CR0402.pdf; ComponentLink3URL: http://www.mouser.com/ds/2/54/r0402-777514.pdf; ComponentLink3Description: http://www.mouser.com/ds/2/54/r0402-777514.pdf; Supplier Part Number 2: 652-CR0402-FX3570GLF; Supplier 1: Digi-Key; Supplier Part Number 1: CR0402-FX-3570GLF-ND
footprint Resistor 0402 EIA
pins: 1, 2

## Res_412K_0402
designator R?, comment 412K
412 kOhms ±1% 0.063W, 1/16W Chip Resistor 0402 (1005 Metric) Moisture Resistant Thick Film; Manufacturer: Yageo; Manufacturer PartNr: RC0402FR-07412KL; power: 62.5mW; Replaceable: yes; Suipplier 1: Digi-Key; value: 412K; tolerance: 1%; Footprint/Package: 0402 (1005); Supplier 2: Mouser; Supplier Part Number 2: 603-RC0402FR-07412KL; ComponentLink1Description: mouser; ComponentLink1URL: https://www.mouser.ch/ProductDetail/Yageo/RC0402FR-07412KL?qs=sGAEpiMZZMu61qfTUdNhG6gKAQVNBKOozNOFQJr2tME%3d; Supplier Part Number 1: YAG3153CT-ND
footprint Resistor 0402 EIA
pins: 1, 2

## Res_620R_0402
designator R?, comment 620R
620 Ohms ±0.1% 0.063W, 1/16W Chip Resistor 0402 (1005 Metric) Automotive AEC-Q200 Thin Film; Manufacturer: Panasonic Electronic Components; Manufacturer PartNr: ERA-2AEB621X; Dielectric Grade: NA; Replaceable: yes; Footprint/Package: 0402 (1005metric); power: 0.063W, 1/16W; Supplier 1: Digi-Key; Supplier Part Number 1: P620DCCT-ND; tolerance: 0.1%; value: 620R
footprint Resistor 0402 EIA
pins: 1, 2

## Res_680R_0402
designator R?, comment 680R
680 Ohm , SMD 0402, 1/16W 0.5%; Manufacturer: Susumu; Manufacturer PartNr: RR0510P-681-D; power: 62.5mW; Replaceable: yes; value: 680R; tolerance: 0.5%; Footprint/Package: 0402 (1005 metric); ComponentLink1Description: mouser; ComponentLink1URL: https://www.mouser.ch/ProductDetail/Susumu/RR0510P-681-D?qs=sGAEpiMZZMu61qfTUdNhG%2fDhcyQpRg8M7o1O4N4ATeA%3d; Supplier 1: Digi-Key; Supplier 2: Mouser; Supplier Part Number 2: 754-RR0510P-681D; Supplier Part Number 1: RR05P680DDKR-ND
footprint Resistor 0402 EIA
pins: 1, 2

## Res_820R_0402
designator R?, comment 820R
820 Ohms ±1% 0.1W, 1/10W 0402 Thick Film; Manufacturer: Panasonic Electronic Components; Manufacturer PartNr: ERJ-2RKF8200X; Replaceable: yes; value: 820R; tolerance: 1%; power: 0.1W, 1/10W; Footprint/Package: 0402 (1005 metric); Supplier 1: Digi-Key; Supplier Part Number 1: P820LCT-ND
footprint Resistor 0402 EIA
pins: 1, 2

## Res_DNP_0402
designator R?, comment DNP
Resistor: do not populate; Replaceable: no; value: DNP; tolerance: *; power: *; Manufacturer: do not populate; Footprint/Package: 0402; Manufacturer PartNr: do not populate
footprint Resistor 0402 EIA
pins: 1, 2

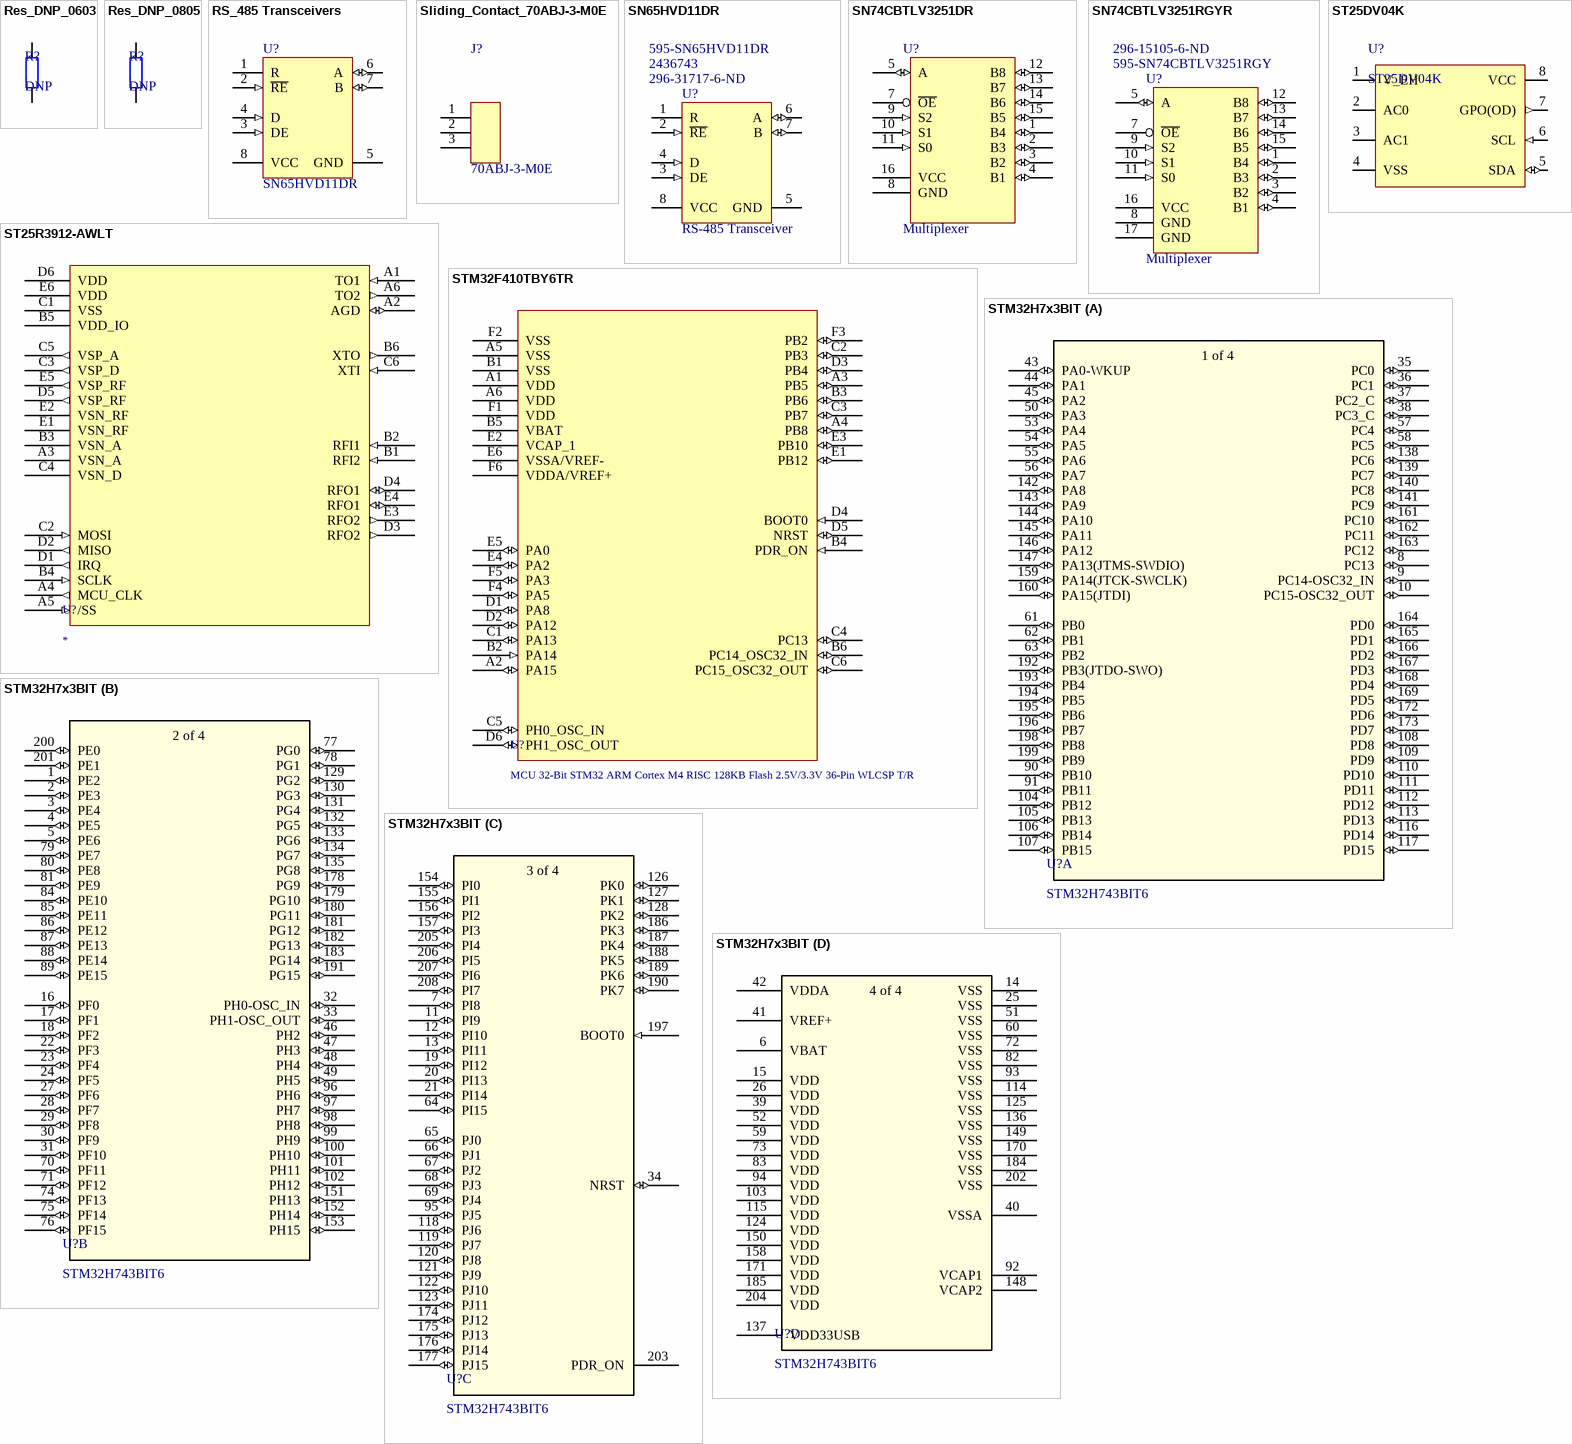
[diagram p6: symbols Res_DNP_0603 to STM32H7x3BIT]

## Res_DNP_0603
designator R?, comment DNP
Resistor: do not populate; Replaceable: no; value: DNP; tolerance: *; power: *; Manufacturer: do not populate; Footprint/Package: 0603; Manufacturer PartNr: do not populate
footprint Resistor 0603 EIA
pins: 1, 2

## Res_DNP_0805
designator R?, comment DNP
Resistor: do not populate; Replaceable: no; value: DNP; tolerance: *; power: *; Manufacturer: do not populate; Footprint/Package: 0805; Manufacturer PartNr: do not populate
footprint Resistor 0805 EIA
pins: 1, 2

## RS_485 Transceivers
designator U?, comment SN65HVD11DR
1/1 Transceiver Half RS422, RS485 8-SOIC; Manufacturer: TI; Replaceable: no; Manufacturer PartNr: SN65HVD11DR; ShortDescription: SN65HVD11DR; Supplier 1: Digi-Key; Supplier Part Number 1: 296-31717-1-ND; Footprint/Package: 8-SOIC
footprint TI_D (R-PDSO-G8)_8_R
pins: 1 R (hiz), 2 ~{RE} (in), 3 DE (in), 4 D (in), 5 GND (power), 6 A (io), 7 B (io), 8 VCC (power)

## Sliding_Contact_70ABJ-3-M0E
designator J?, comment 70ABJ-3-M0E  (net tie)
3 Position Spring Compression Contact, Male Connector Surface Mount; Replaceable: no; Footprint/Package: 1.27mm; ComponentLink1Description: digikey; ComponentLink1URL: https://www.digikey.com/product-detail/en/bourns-inc/70ABJ-3-M0E/70ABJ-3-M0ETR-ND/2037593
footprint 70ABJ-3-M0E (3 Position Spring Compression Contact, Male Connector Surface Mount)
pins: 1, 2, 3

## SN65HVD11DR
designator U?, comment RS-485 Transceiver  Supplier Part Number 1: 296-31717-6-ND  Supplier Part Number 2: 2436743  Supplier Part Number 3: 595-SN65HVD11DR
RS-485 Interface IC 3.3V Differential Transceivers; Manufacturer: Texas Instruments; Manufacturer PartNr: SN65HVD11DR; Replaceable: no; ComponentLink1Description: mouser; ComponentLink1URL: https://www.mouser.ch/ProductDetail/Texas-Instruments/SN65HVD11DR?qs=sGAEpiMZZMtk5jbcouIbS2cUqarwnJ3LOIItPoxnG4E%3d; Footprint/Package: SOIC-8; Supplier 1: Digi-Key; Supplier 2: Farnell; Supplier 3: Mouser
footprint TI_D (R-PDSO-G8)_8_R
pins: 1 R (hiz), 2 ~{RE} (in), 3 DE (in), 4 D (in), 5 GND (power), 6 A (io), 7 B (io), 8 VCC (power)

## SN74CBTLV3251DR
designator U?, comment Multiplexer
Multiplexer Switch ICs Sngl-Pole Dbl-Throw Analog Switch; Manufacturer: Texas Instruments; Manufacturer PartNr: SN74CBTLV3251DR; Replaceable: no; ComponentLink1Description: mouser; ComponentLink1URL: https://www.mouser.ch/ProductDetail/Texas-Instruments/SN74CBTLV3251DR?qs=sGAEpiMZZMtxrAS98ir%252bsyyzhQKXP6Bbred42IouBGg%3d; Footprint/Package: SOP-16
footprint SN74CBTLV3251DR (16-SOIC)
pins: 1 B4 (io), 2 B3 (io), 3 B2 (io), 4 B1 (io), 5 A (io), 7 ~{OE}, 8 GND, 9 S2 (in), 10 S1 (in), 11 S0 (in), 12 B8 (io), 13 B7 (io), 14 B6 (io), 15 B5 (io), 16 VCC (power)

## SN74CBTLV3251RGYR
designator U?, comment Multiplexer  Supplier Part Number 1: 595-SN74CBTLV3251RGY  Supplier Part Number 2: 296-15105-6-ND
Multiplexer Switch ICs Sngl-Pole Dbl-Throw Analog Switch; Manufacturer: Texas Instruments; Manufacturer PartNr: SN74CBTLV3251RGYR; Replaceable: no; ComponentLink1Description: mouser; ComponentLink1URL: https://www.mouser.ch/ProductDetail/Texas-Instruments/SN74CBTLV3251RGYR?qs=%2fha2pyFaduj0jkaZeFbDsRaCQjjoxFIhZ%2frFxSESrMpT%252bYmeDnewIw%3d%3d; Footprint/Package: VQFN-16; Supplier 1: Mouser; Supplier 2: Digi-Key
footprint TexasInstruments_16-VFQFN_16_R
footprint TexasInstruments_16-VFQFN_16_R
pins: 1 B4 (io), 2 B3 (io), 3 B2 (io), 4 B1 (io), 5 A (io), 7 ~{OE}, 8 GND, 9 S2 (in), 10 S1 (in), 11 S0 (in), 12 B8 (io), 13 B7 (io), 14 B6 (io), 15 B5 (io), 16 VCC (power), 17 GND

## ST25DV04K
designator U?
RFID Transponders 4-Kbit Dynamic NFC/RFID tag with I2C interface and energy harvesting; Manufacturer: STMicroelectronics; Manufacturer PartNr: ST25DV04K-IER8C3; Replaceable: no; value: ST25DV04K-IER8C3; ComponentLink1Description: mouser; ComponentLink1URL: https://www.mouser.ch/ProductDetail/Texas-Instruments/TPS54260DGQR?qs=sGAEpiMZZMvAX9OfPh%252b2NVVXPcZYNNxJ6f9D0IR5ghU%3d; Footprint/Package: UFDFPN-8; Supplier 1: Digi-Key; Supplier Part Number 1: 497-19302-1-ND
footprint ST25DV04_UFDFPN8 (UFDFPN8)
pins: 1 V_EH, 2 AC0, 3 AC1, 4 VSS, 5 SDA (io), 6 SCL (in), 7 GPO(OD) (out), 8 VCC (power)

## ST25R3912-AWLT
designator U?
NFC/RFID Read/Write 30-Pin WLCSP T/R; Package: WFBGA-30; Parameter 1: *
footprint BGA30N40P6X5_274X214X69N (ST25R3912)
pins: A1 TO1 (in), A2 AGD (io), A3 VSN_A (power), A4 MCU_CLK (out), A5 /SS (in), A6 TO2 (out), B1 RFI2 (in), B2 RFI1 (in), B3 VSN_A (power), B4 SCLK (in), B5 VDD_IO (power), B6 XTO (out), C1 VSS (power), C2 MOSI (in), C3 VSP_D (out), C4 VSN_D (power), C5 VSP_A (out), C6 XTI (in), D1 IRQ (out), D2 MISO (out), D3 RFO2 (out), D4 RFO1 (io), D5 VSP_RF (out), D6 VDD (power), E1 VSN_RF (power), E2 VSN_RF (power), E3 RFO2 (out), E4 RFO1 (io), E5 VSP_RF (out), E6 VDD

## STM32F410TBY6TR
designator U?, comment MCU 32-Bit STM32 ARM Cortex M4 RISC 128KB Flash 2.5V/3.3V 36-Pin WLCSP T/R
footprint BGA36N40P6X6_260X270X58N
pins: A1 VDD (power), A2 PA15 (io), A3 PB5 (io), A4 PB8 (io), A5 VSS, A6 VDD (power), B1 VSS (power), B2 PA14 (in), B3 PB6 (io), B4 PDR_ON (in), B5 VBAT (power), B6 PC14_OSC32_IN (io), C1 PA13 (io), C2 PB3 (io), C3 PB7 (io), C4 PC13 (io), C5 PH0_OSC_IN (io), C6 PC15_OSC32_OUT (io), D1 PA8 (io), D2 PA12 (io), D3 PB4 (io), D4 BOOT0 (in), D5 NRST (io), D6 PH1_OSC_OUT (io), E1 PB12 (io), E2 VCAP_1 (power), E3 PB10 (io), E4 PA2 (io), E5 PA0 (io), E6 VSSA/VREF- (power), F1 VDD (power), F2 VSS (power), F3 PB2 (io), F4 PA5 (io), F5 PA3 (io), F6 VDDA/VREF+ (power)

## STM32H7x3BIT
designator U?, comment STM32H743BIT6
ARM Cortex-M7 STM32H7 Mikrocontroller IC 32-Bit 480MHz 2MB (2M x 8) FLASH 208-LQFP (28x28); Manufacturer: STMicroelectronics; voltage: 1,62V-3.6V; Replaceable: no; DIelectric Grade: -; Manufacturer PartNr: STM32H743BIT6; power: -; value: STM32H743BIT6; Type: Type; Supplier 1: Digi-Key; Supplier Part Number 1: 497-18562-ND; Footprint/Package: 208-LQFP (28x28); tolerance: -
footprint LQFP208_STM32H743BITx
part A pins: 8 PC13 (io), 9 PC14-OSC32_IN (io), 10 PC15-OSC32_OUT (io), 35 PC0 (io), 36 PC1 (io), 37 PC2_C (io), 38 PC3_C (io), 43 PA0-WKUP (io), 44 PA1 (io), 45 PA2 (io), 50 PA3 (io), 53 PA4 (io), 54 PA5 (io), 55 PA6 (io), 56 PA7 (io), 57 PC4 (io), 58 PC5 (io), 61 PB0 (io), 62 PB1 (io), 63 PB2 (io), 90 PB10 (io), 91 PB11 (io), 104 PB12 (io), 105 PB13 (io), 106 PB14 (io), 107 PB15 (io), 108 PD8 (io), 109 PD9 (io), 110 PD10 (io), 111 PD11 (io), 112 PD12 (io), 113 PD13 (io), 116 PD14 (io), 117 PD15 (io), 138 PC6 (io), 139 PC7 (io), 140 PC8 (io), 141 PC9 (io), 142 PA8 (io), 143 PA9 (io), 144 PA10 (io), 145 PA11 (io), 146 PA12 (io), 147 PA13(JTMS-SWDIO) (io), 159 PA14(JTCK-SWCLK) (io), 160 PA15(JTDI) (io), 161 PC10 (io), 162 PC11 (io), 163 PC12 (io), 164 PD0 (io), 165 PD1 (io), 166 PD2 (io), 167 PD3 (io), 168 PD4 (io), 169 PD5 (io), 172 PD6 (io), 173 PD7 (io), 192 PB3(JTDO-SWO) (io), 193 PB4 (io), 194 PB5 (io), 195 PB6 (io), 196 PB7 (io), 198 PB8 (io), 199 PB9 (io)
part B pins: 1 PE2 (io), 2 PE3 (io), 3 PE4 (io), 4 PE5 (io), 5 PE6 (io), 16 PF0 (io), 17 PF1 (io), 18 PF2 (io), 22 PF3 (io), 23 PF4 (io), 24 PF5 (io), 27 PF6 (io), 28 PF7 (io), 29 PF8 (io), 30 PF9 (io), 31 PF10 (io), 32 PH0-OSC_IN (io), 33 PH1-OSC_OUT (io), 46 PH2 (io), 47 PH3 (io), 48 PH4 (io), 49 PH5 (io), 70 PF11 (io), 71 PF12 (io), 74 PF13 (io), 75 PF14 (io), 76 PF15 (io), 77 PG0 (io), 78 PG1 (io), 79 PE7 (io), 80 PE8 (io), 81 PE9 (io), 84 PE10 (io), 85 PE11 (io), 86 PE12 (io), 87 PE13 (io), 88 PE14 (io), 89 PE15 (io), 96 PH6 (io), 97 PH7 (io), 98 PH8 (io), 99 PH9 (io), 100 PH10 (io), 101 PH11 (io), 102 PH12 (io), 129 PG2 (io), 130 PG3 (io), 131 PG4 (io), 132 PG5 (io), 133 PG6 (io), 134 PG7 (io), 135 PG8 (io), 151 PH13 (io), 152 PH14 (io), 153 PH15 (io), 178 PG9 (io), 179 PG10 (io), 180 PG11 (io), 181 PG12 (io), 182 PG13 (io), 183 PG14 (io), 191 PG15 (io), 200 PE0 (io), 201 PE1 (io)
part C pins: 7 PI8 (io), 11 PI9 (io), 12 PI10 (io), 13 PI11 (io), 19 PI12 (io), 20 PI13 (io), 21 PI14 (io), 34 NRST (io), 64 PI15 (io), 65 PJ0 (io), 66 PJ1 (io), 67 PJ2 (io), 68 PJ3 (io), 69 PJ4 (io), 95 PJ5 (io), 118 PJ6 (io), 119 PJ7 (io), 120 PJ8 (io), 121 PJ9 (io), 122 PJ10 (io), 123 PJ11 (io), 126 PK0 (io), 127 PK1 (io), 128 PK2 (io), 154 PI0 (io), 155 PI1 (io), 156 PI2 (io), 157 PI3 (io), 174 PJ12 (io), 175 PJ13 (io), 176 PJ14 (io), 177 PJ15 (io), 186 PK3 (io), 187 PK4 (io), 188 PK5 (io), 189 PK6 (io), 190 PK7 (io), 197 BOOT0 (in), 203 PDR_ON, 205 PI4 (io), 206 PI5 (io), 207 PI6 (io), 208 PI7 (io)
part D pins: 6 VBAT (power), 14 VSS (power), 15 VDD (power), 25 VSS (power), 26 VDD (power), 39 VDD (power), 40 VSSA (power), 41 VREF+ (power), 42 VDDA (power), 51 VSS (power), 52 VDD (power), 59 VDD (power), 60 VSS (power), 72 VSS (power), 73 VDD (power), 82 VSS (power), 83 VDD (power), 92 VCAP1 (power), 93 VSS (power), 94 VDD (power), 103 VDD (power), 114 VSS (power), 115 VDD (power), 124 VDD (power), 125 VSS (power), 136 VSS (power), 137 VDD33USB (power), 148 VCAP2 (power), 149 VSS (power), 150 VDD (power), 158 VDD (power), 170 VSS (power), 171 VDD (power), 184 VSS (power), 185 VDD (power), 202 VSS (power), 204 VDD (power)
part A text: 1 of 4
part B text: 2 of 4
part C text: 3 of 4
part D text: 4 of 4

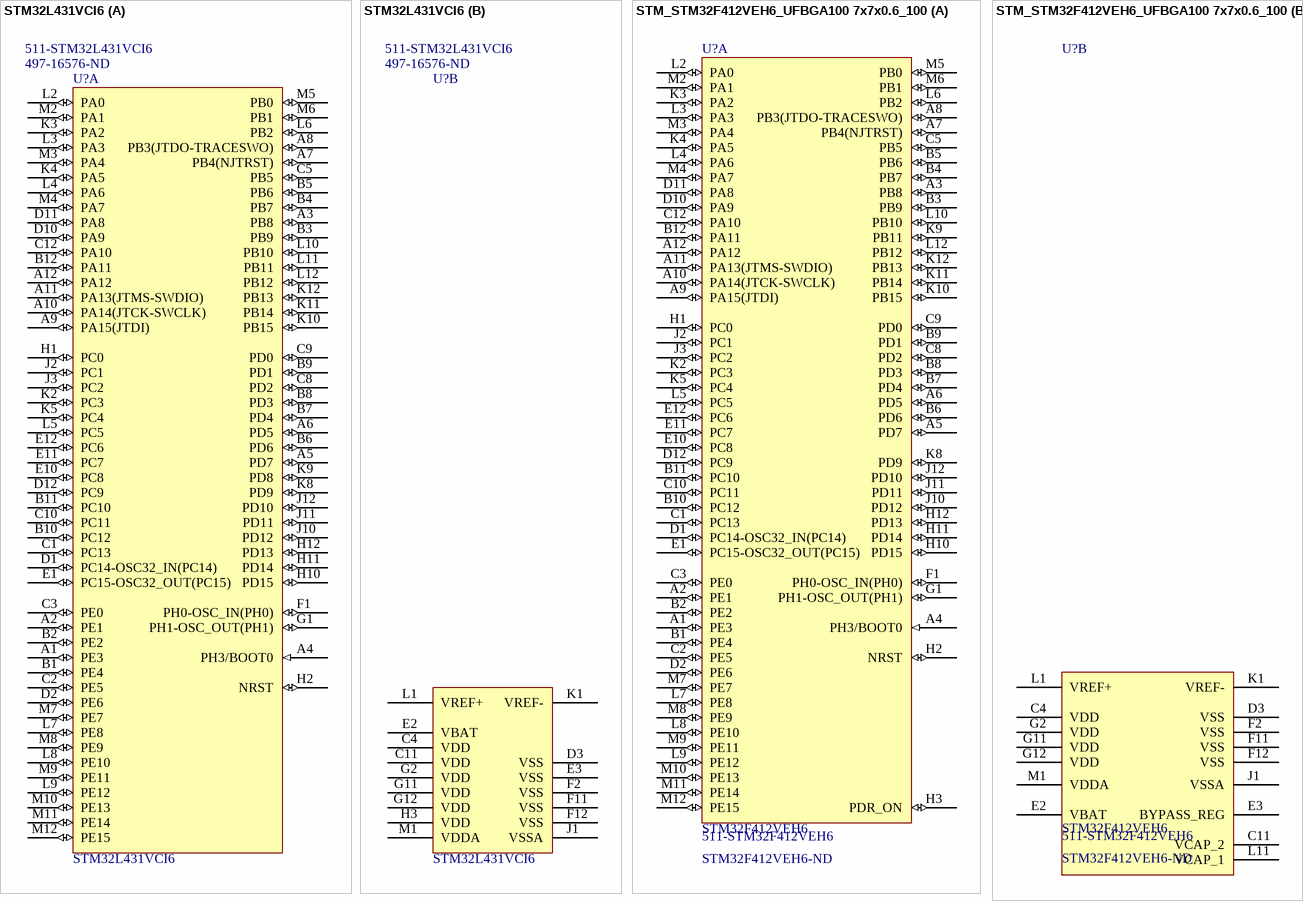
[diagram p7: symbols STM32L431VCI6 to STM_STM32F412VEH6_UFBGA100 7x7x0.6_100]